# EAGLE library part CON_PINHD-2X19 (library akita)
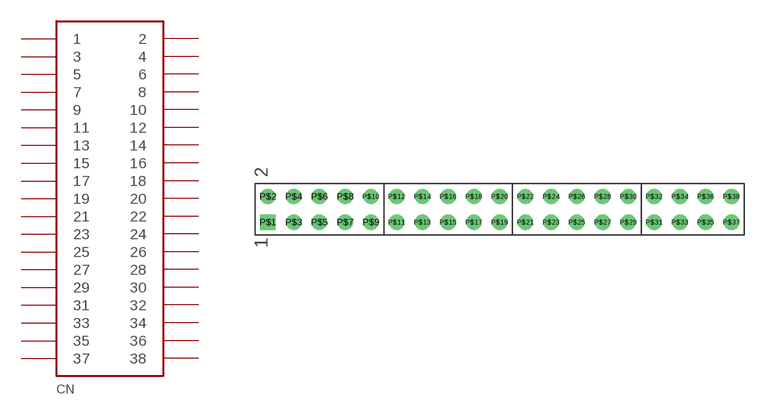
[diagram p175: symbol with the pads of 2X19R; footprint 2X19R]

Designator prefix CN

## CON_PINHD-2X19  [2X19R]
P$1  1
P$2  2
P$3  3
P$4  4
P$5  5
P$6  6
P$7  7
P$8  8
P$9  9
P$10  10
P$11  11
P$12  12
P$13  13
P$14  14
P$15  15
P$16  16
P$17  17
P$18  18
P$19  19
P$20  20
P$21  21
P$22  22
P$23  23
P$24  24
P$25  25
P$26  26
P$27  27
P$28  28
P$29  29
P$30  30
P$31  31
P$32  32
P$33  33
P$34  34
P$35  35
P$36  36
P$37  37
P$38  38

## Footprint 2X19R (pad centres in mm)
drill 1 square: P$1 -22.86,-1.27
drill 1: P$2 -22.86,1.27; P$3 -20.32,-1.27; P$4 -20.32,1.27; P$5 -17.78,-1.27; P$6 -17.78,1.27; P$7 -15.24,-1.27; P$8 -15.24,1.27; P$9 -12.7,-1.27; P$10 -12.7,1.27; P$11 -10.16,-1.27; P$12 -10.16,1.27; P$13 -7.62,-1.27; P$14 -7.62,1.27; P$15 -5.08,-1.27; P$16 -5.08,1.27; P$17 -2.54,-1.27; P$18 -2.54,1.27; P$19 0,-1.27; P$20 0,1.27; P$21 2.54,-1.27; P$22 2.54,1.27; P$23 5.08,-1.27; P$24 5.08,1.27; P$25 7.62,-1.27; P$26 7.62,1.27; P$27 10.16,-1.27; P$28 10.16,1.27; P$29 12.7,-1.27; P$30 12.7,1.27; P$31 15.24,-1.27; P$32 15.24,1.27; P$33 17.78,-1.27; P$34 17.78,1.27; P$35 20.32,-1.27; P$36 20.32,1.27; P$37 22.86,-1.27; P$38 22.86,1.27